# Altium integrated library Analog Devices Operational Amplifiers.IntLib: 2102 symbols (part 60 of 70)
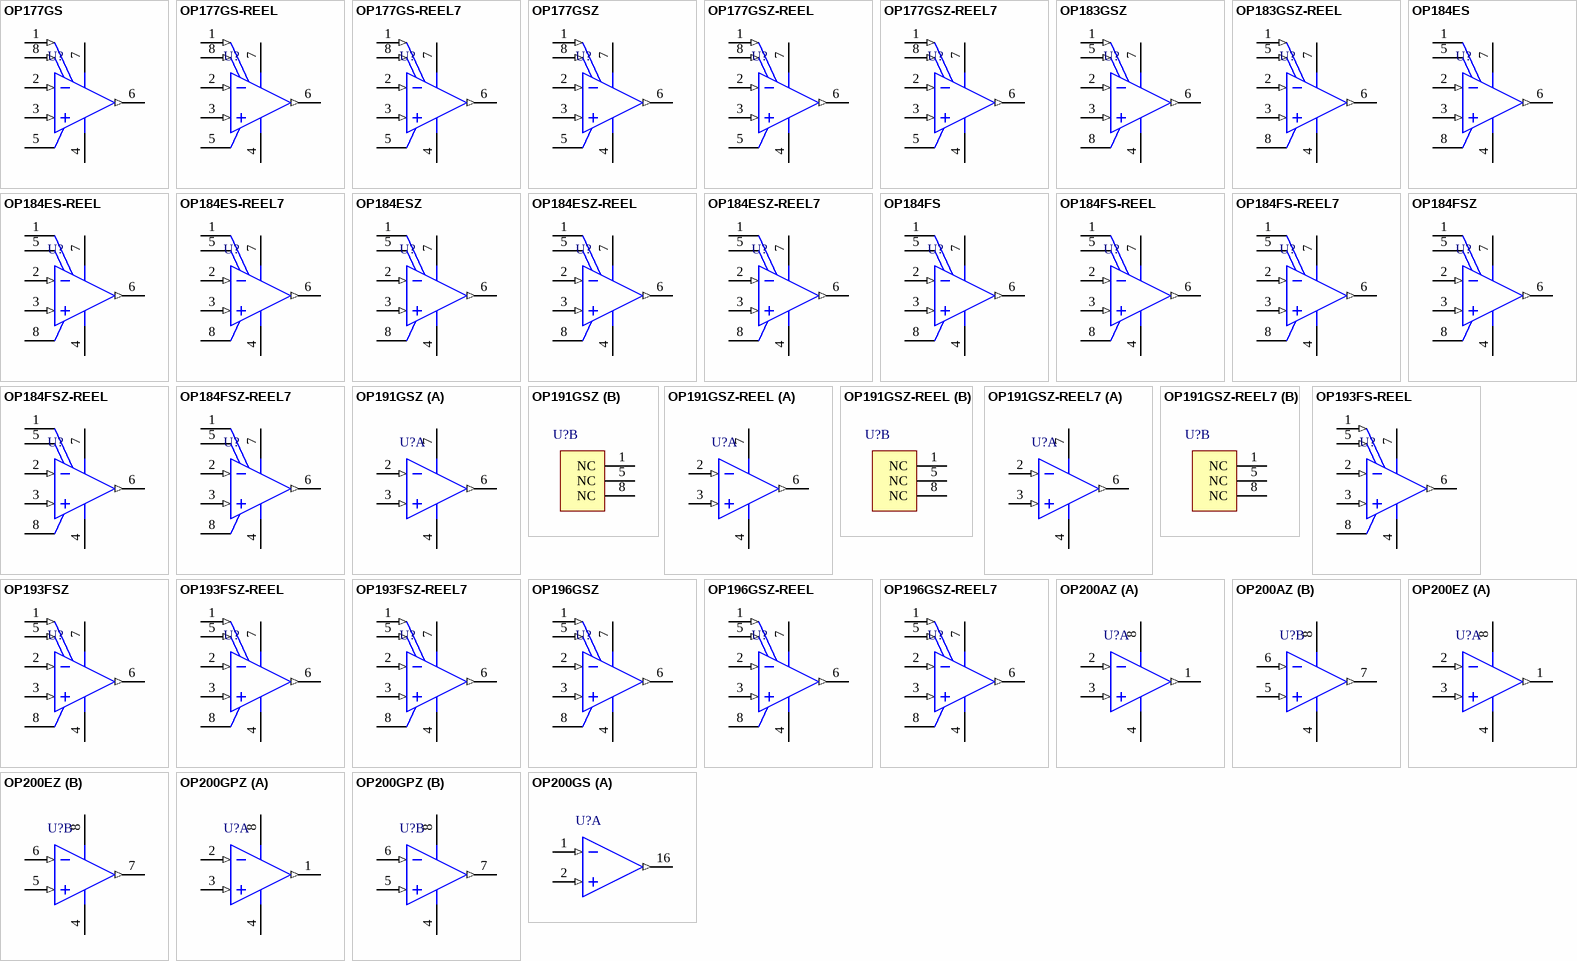
[diagram p173: symbols OP177GS to OP200GS]

## OP184ES
designator U?
Single Channel Wide Bandwidth Operational Amplifier, 4.25 MHz BW, 4 V/us SR, Industrial, 8-pin SOIC (R-8), Tube; Generic Part Number: OP184; Manufacturer: Analog Devices; PartNumber: OP184ES; Amplifiers Per Package: 1; Input Bias Current: 80nA; Input Offset Voltage: 175uV; Iq/Amp: 2mA; Slew Rate: 4V/us; V Span Max: 36V; V Span Min: 3V; DatasheetVersion: Rev. J; PackageVersion: 060506-A; PackageReference: R-8; PackageDescription: 8-Pin Standard Small Outline Package, Body 3.9 x 4.9 mm, Pitch 1.27 mm; Supplier 1: Digi-Key; Supplier Part Number 1: OP184ES-ND; Supplier 2: Newark; Supplier Part Number 2: 91F2959; Packing: Tube; Small Signal Bandwidth: 4.25MHz; Mounting Technology: Surface Mount; Code_JEDEC: MS-012-AA; ComponentLink1Description: Manufacturer URL; ComponentLink1URL: http://www.analog.com/en/index.html; ComponentLink2Description: Datasheet; ComponentLink2URL: http://www.analog.com/static/imported-files/data_sheets/OP184_284_484.pdf; ComponentLink3Description: Package Specification; ComponentLink3URL: http://www.analog.com/static/imported-files/packages/PKG_PDF/SOIC_Narrow%20(R)/R_8.pdf; ComponentLink4Description: Reference Circuit; ComponentLink4URL: http://www.analog.com/en/all-operational-amplifiers-op-amps/operational-amplifiers-op-amps/op184/products/product.html#product-recommendations
footprint ADI-R-8_N (SOIC, 8-Leads, Body 4.9x3.9mm, Pitch 1.27mm, IPC Medium Density)
footprint ADI-R-8_L (SOIC, 8-Leads, Body 4.9x3.9mm, Pitch 1.27mm, IPC High Density)
footprint ADI-R-8_M (SOIC, 8-Leads, Body 4.9x3.9mm, Pitch 1.27mm, IPC Low Density)
pins: 1 DNC, 2 -IN A (in), 3 +IN A (in), 4 -V (power), 5 DNC, 6 OUT A (out), 7 +V (power), 8 NC

## OP184ES-REEL
designator U?
Single Channel Wide Bandwidth Operational Amplifier, 4.25 MHz BW, 4 V/us SR, Industrial, 8-pin SOIC (R-8), Reel; Generic Part Number: OP184; Manufacturer: Analog Devices; PartNumber: OP184ES-REEL; Amplifiers Per Package: 1; Input Bias Current: 80nA; Input Offset Voltage: 175uV; Iq/Amp: 2mA; Slew Rate: 4V/us; V Span Max: 36V; V Span Min: 3V; DatasheetVersion: Rev. J; PackageVersion: 060506-A; PackageReference: R-8; PackageDescription: 8-Pin Standard Small Outline Package, Body 3.9 x 4.9 mm, Pitch 1.27 mm; Supplier 1: Digi-Key; Supplier Part Number 1: OP184ES-REEL-ND; Supplier 2: Newark; Supplier Part Number 2: 09B8332; Packing: Reel; Small Signal Bandwidth: 4.25MHz; Mounting Technology: Surface Mount; Code_JEDEC: MS-012-AA; ComponentLink1Description: Manufacturer URL; ComponentLink1URL: http://www.analog.com/en/index.html; ComponentLink2Description: Datasheet; ComponentLink2URL: http://www.analog.com/static/imported-files/data_sheets/OP184_284_484.pdf; ComponentLink3Description: Package Specification; ComponentLink3URL: http://www.analog.com/static/imported-files/packages/PKG_PDF/SOIC_Narrow%20(R)/R_8.pdf; ComponentLink4Description: Reference Circuit; ComponentLink4URL: http://www.analog.com/en/all-operational-amplifiers-op-amps/operational-amplifiers-op-amps/op184/products/product.html#product-recommendations
footprint ADI-R-8_N (SOIC, 8-Leads, Body 4.9x3.9mm, Pitch 1.27mm, IPC Medium Density)
footprint ADI-R-8_L (SOIC, 8-Leads, Body 4.9x3.9mm, Pitch 1.27mm, IPC High Density)
footprint ADI-R-8_M (SOIC, 8-Leads, Body 4.9x3.9mm, Pitch 1.27mm, IPC Low Density)
pins: 1 DNC, 2 -IN A (in), 3 +IN A (in), 4 -V (power), 5 DNC, 6 OUT A (out), 7 +V (power), 8 NC

## OP184ES-REEL7
designator U?
Single Channel Wide Bandwidth Operational Amplifier, 4.25 MHz BW, 4 V/us SR, Industrial, 8-pin SOIC (R-8), Reel; Generic Part Number: OP184; Manufacturer: Analog Devices; PartNumber: OP184ES-REEL7; Amplifiers Per Package: 1; Input Bias Current: 80nA; Input Offset Voltage: 175uV; Iq/Amp: 2mA; Slew Rate: 4V/us; V Span Max: 36V; V Span Min: 3V; DatasheetVersion: Rev. J; PackageVersion: 060506-A; PackageReference: R-8; PackageDescription: 8-Pin Standard Small Outline Package, Body 3.9 x 4.9 mm, Pitch 1.27 mm; Supplier 1: Digi-Key; Supplier Part Number 1: OP184ES-REEL7-ND; Supplier 2: Newark; Supplier Part Number 2: 09B8333; Packing: Reel; Small Signal Bandwidth: 4.25MHz; Mounting Technology: Surface Mount; Code_JEDEC: MS-012-AA; ComponentLink1Description: Manufacturer URL; ComponentLink1URL: http://www.analog.com/en/index.html; ComponentLink2Description: Datasheet; ComponentLink2URL: http://www.analog.com/static/imported-files/data_sheets/OP184_284_484.pdf; ComponentLink3Description: Package Specification; ComponentLink3URL: http://www.analog.com/static/imported-files/packages/PKG_PDF/SOIC_Narrow%20(R)/R_8.pdf; ComponentLink4Description: Reference Circuit; ComponentLink4URL: http://www.analog.com/en/all-operational-amplifiers-op-amps/operational-amplifiers-op-amps/op184/products/product.html#product-recommendations
footprint ADI-R-8_N (SOIC, 8-Leads, Body 4.9x3.9mm, Pitch 1.27mm, IPC Medium Density)
footprint ADI-R-8_L (SOIC, 8-Leads, Body 4.9x3.9mm, Pitch 1.27mm, IPC High Density)
footprint ADI-R-8_M (SOIC, 8-Leads, Body 4.9x3.9mm, Pitch 1.27mm, IPC Low Density)
pins: 1 DNC, 2 -IN A (in), 3 +IN A (in), 4 -V (power), 5 DNC, 6 OUT A (out), 7 +V (power), 8 NC

## OP184ESZ
designator U?
Single Channel Wide Bandwidth Operational Amplifier, 4.25 MHz BW, 4 V/us SR, Industrial, 8-pin SOIC (R-8), Tube; Generic Part Number: OP184; Manufacturer: Analog Devices; PartNumber: OP184ESZ; Amplifiers Per Package: 1; Input Bias Current: 80nA; Input Offset Voltage: 175uV; Iq/Amp: 2mA; Slew Rate: 4V/us; V Span Max: 36V; V Span Min: 3V; DatasheetVersion: Rev. J; PackageVersion: 060506-A; PackageReference: R-8; PackageDescription: 8-Pin Standard Small Outline Package, Body 3.9 x 4.9 mm, Pitch 1.27 mm; Supplier 1: Digi-Key; Supplier Part Number 1: OP184ESZ-ND; Supplier 2: Farnell; Supplier Part Number 2: 1661002; Supplier 3: Newark; Supplier Part Number 3: 59K8781; Packing: Tube; Small Signal Bandwidth: 4.25MHz; Mounting Technology: Surface Mount; Code_JEDEC: MS-012-AA; ComponentLink1Description: Manufacturer URL; ComponentLink1URL: http://www.analog.com/en/index.html; ComponentLink2Description: Datasheet; ComponentLink2URL: http://www.analog.com/static/imported-files/data_sheets/OP184_284_484.pdf; ComponentLink3Description: Package Specification; ComponentLink3URL: http://www.analog.com/static/imported-files/packages/PKG_PDF/SOIC_Narrow%20(R)/R_8.pdf; ComponentLink4Description: Reference Circuit; ComponentLink4URL: http://www.analog.com/en/all-operational-amplifiers-op-amps/operational-amplifiers-op-amps/op184/products/product.html#product-recommendations
footprint ADI-R-8_N (SOIC, 8-Leads, Body 4.9x3.9mm, Pitch 1.27mm, IPC Medium Density)
footprint ADI-R-8_L (SOIC, 8-Leads, Body 4.9x3.9mm, Pitch 1.27mm, IPC High Density)
footprint ADI-R-8_M (SOIC, 8-Leads, Body 4.9x3.9mm, Pitch 1.27mm, IPC Low Density)
pins: 1 DNC, 2 -IN A (in), 3 +IN A (in), 4 -V (power), 5 DNC, 6 OUT A (out), 7 +V (power), 8 NC

## OP184ESZ-REEL
designator U?
Single Channel Wide Bandwidth Operational Amplifier, 4.25 MHz BW, 4 V/us SR, Industrial, 8-pin SOIC (R-8), Reel; Generic Part Number: OP184; Manufacturer: Analog Devices; PartNumber: OP184ESZ-REEL; Amplifiers Per Package: 1; Input Bias Current: 80nA; Input Offset Voltage: 175uV; Iq/Amp: 2mA; Slew Rate: 4V/us; V Span Max: 36V; V Span Min: 3V; DatasheetVersion: Rev. J; PackageVersion: 060506-A; PackageReference: R-8; PackageDescription: 8-Pin Standard Small Outline Package, Body 3.9 x 4.9 mm, Pitch 1.27 mm; Supplier 1: Digi-Key; Supplier Part Number 1: OP184ESZ-REEL-ND; Supplier 2: Newark; Supplier Part Number 2: 59K8782; Packing: Reel; Small Signal Bandwidth: 4.25MHz; Mounting Technology: Surface Mount; Code_JEDEC: MS-012-AA; ComponentLink1Description: Manufacturer URL; ComponentLink1URL: http://www.analog.com/en/index.html; ComponentLink2Description: Datasheet; ComponentLink2URL: http://www.analog.com/static/imported-files/data_sheets/OP184_284_484.pdf; ComponentLink3Description: Package Specification; ComponentLink3URL: http://www.analog.com/static/imported-files/packages/PKG_PDF/SOIC_Narrow%20(R)/R_8.pdf; ComponentLink4Description: Reference Circuit; ComponentLink4URL: http://www.analog.com/en/all-operational-amplifiers-op-amps/operational-amplifiers-op-amps/op184/products/product.html#product-recommendations
footprint ADI-R-8_N (SOIC, 8-Leads, Body 4.9x3.9mm, Pitch 1.27mm, IPC Medium Density)
footprint ADI-R-8_L (SOIC, 8-Leads, Body 4.9x3.9mm, Pitch 1.27mm, IPC High Density)
footprint ADI-R-8_M (SOIC, 8-Leads, Body 4.9x3.9mm, Pitch 1.27mm, IPC Low Density)
pins: 1 DNC, 2 -IN A (in), 3 +IN A (in), 4 -V (power), 5 DNC, 6 OUT A (out), 7 +V (power), 8 NC

## OP184ESZ-REEL7
designator U?
Single Channel Wide Bandwidth Operational Amplifier, 4.25 MHz BW, 4 V/us SR, Industrial, 8-pin SOIC (R-8), Reel; Generic Part Number: OP184; Manufacturer: Analog Devices; PartNumber: OP184ESZ-REEL7; Amplifiers Per Package: 1; Input Bias Current: 80nA; Input Offset Voltage: 175uV; Iq/Amp: 2mA; Slew Rate: 4V/us; V Span Max: 36V; V Span Min: 3V; DatasheetVersion: Rev. J; PackageVersion: 060506-A; PackageReference: R-8; PackageDescription: 8-Pin Standard Small Outline Package, Body 3.9 x 4.9 mm, Pitch 1.27 mm; Supplier 1: Digi-Key; Supplier Part Number 1: OP184ESZ-REEL7-ND; Supplier 2: Newark; Supplier Part Number 2: 59K8783; Packing: Reel; Small Signal Bandwidth: 4.25MHz; Mounting Technology: Surface Mount; Code_JEDEC: MS-012-AA; ComponentLink1Description: Manufacturer URL; ComponentLink1URL: http://www.analog.com/en/index.html; ComponentLink2Description: Datasheet; ComponentLink2URL: http://www.analog.com/static/imported-files/data_sheets/OP184_284_484.pdf; ComponentLink3Description: Package Specification; ComponentLink3URL: http://www.analog.com/static/imported-files/packages/PKG_PDF/SOIC_Narrow%20(R)/R_8.pdf; ComponentLink4Description: Reference Circuit; ComponentLink4URL: http://www.analog.com/en/all-operational-amplifiers-op-amps/operational-amplifiers-op-amps/op184/products/product.html#product-recommendations
footprint ADI-R-8_N (SOIC, 8-Leads, Body 4.9x3.9mm, Pitch 1.27mm, IPC Medium Density)
footprint ADI-R-8_L (SOIC, 8-Leads, Body 4.9x3.9mm, Pitch 1.27mm, IPC High Density)
footprint ADI-R-8_M (SOIC, 8-Leads, Body 4.9x3.9mm, Pitch 1.27mm, IPC Low Density)
pins: 1 DNC, 2 -IN A (in), 3 +IN A (in), 4 -V (power), 5 DNC, 6 OUT A (out), 7 +V (power), 8 NC

## OP184FS
designator U?
Single Channel Wide Bandwidth Operational Amplifier, 4.25 MHz BW, 4 V/us SR, Industrial, 8-pin SOIC (R-8), Tube; Generic Part Number: OP184; Manufacturer: Analog Devices; PartNumber: OP184FS; Amplifiers Per Package: 1; Input Bias Current: 80nA; Input Offset Voltage: 175uV; Iq/Amp: 2mA; Slew Rate: 4V/us; V Span Max: 36V; V Span Min: 3V; DatasheetVersion: Rev. J; PackageVersion: 060506-A; PackageReference: R-8; PackageDescription: 8-Pin Standard Small Outline Package, Body 3.9 x 4.9 mm, Pitch 1.27 mm; Supplier 1: Digi-Key; Supplier Part Number 1: OP184FS-ND; Packing: Tube; Small Signal Bandwidth: 4.25MHz; Mounting Technology: Surface Mount; Code_JEDEC: MS-012-AA; ComponentLink1Description: Manufacturer URL; ComponentLink1URL: http://www.analog.com/en/index.html; ComponentLink2Description: Datasheet; ComponentLink2URL: http://www.analog.com/static/imported-files/data_sheets/OP184_284_484.pdf; ComponentLink3Description: Package Specification; ComponentLink3URL: http://www.analog.com/static/imported-files/packages/PKG_PDF/SOIC_Narrow%20(R)/R_8.pdf; ComponentLink4Description: Reference Circuit; ComponentLink4URL: http://www.analog.com/en/all-operational-amplifiers-op-amps/operational-amplifiers-op-amps/op184/products/product.html#product-recommendations
footprint ADI-R-8_N (SOIC, 8-Leads, Body 4.9x3.9mm, Pitch 1.27mm, IPC Medium Density)
footprint ADI-R-8_L (SOIC, 8-Leads, Body 4.9x3.9mm, Pitch 1.27mm, IPC High Density)
footprint ADI-R-8_M (SOIC, 8-Leads, Body 4.9x3.9mm, Pitch 1.27mm, IPC Low Density)
pins: 1 DNC, 2 -IN A (in), 3 +IN A (in), 4 -V (power), 5 DNC, 6 OUT A (out), 7 +V (power), 8 NC

## OP184FS-REEL
designator U?
Single Channel Wide Bandwidth Operational Amplifier, 4.25 MHz BW, 4 V/us SR, Industrial, 8-pin SOIC (R-8), Reel; Generic Part Number: OP184; Manufacturer: Analog Devices; PartNumber: OP184FS-REEL; Amplifiers Per Package: 1; Input Bias Current: 80nA; Input Offset Voltage: 175uV; Iq/Amp: 2mA; Slew Rate: 4V/us; V Span Max: 36V; V Span Min: 3V; DatasheetVersion: Rev. J; PackageVersion: 060506-A; PackageReference: R-8; PackageDescription: 8-Pin Standard Small Outline Package, Body 3.9 x 4.9 mm, Pitch 1.27 mm; Supplier 1: Digi-Key; Supplier Part Number 1: OP184FS-REEL-ND; Supplier 2: Newark; Supplier Part Number 2: 09B8334; Packing: Reel; Small Signal Bandwidth: 4.25MHz; Mounting Technology: Surface Mount; Code_JEDEC: MS-012-AA; ComponentLink1Description: Manufacturer URL; ComponentLink1URL: http://www.analog.com/en/index.html; ComponentLink2Description: Datasheet; ComponentLink2URL: http://www.analog.com/static/imported-files/data_sheets/OP184_284_484.pdf; ComponentLink3Description: Package Specification; ComponentLink3URL: http://www.analog.com/static/imported-files/packages/PKG_PDF/SOIC_Narrow%20(R)/R_8.pdf; ComponentLink4Description: Reference Circuit; ComponentLink4URL: http://www.analog.com/en/all-operational-amplifiers-op-amps/operational-amplifiers-op-amps/op184/products/product.html#product-recommendations
footprint ADI-R-8_N (SOIC, 8-Leads, Body 4.9x3.9mm, Pitch 1.27mm, IPC Medium Density)
footprint ADI-R-8_L (SOIC, 8-Leads, Body 4.9x3.9mm, Pitch 1.27mm, IPC High Density)
footprint ADI-R-8_M (SOIC, 8-Leads, Body 4.9x3.9mm, Pitch 1.27mm, IPC Low Density)
pins: 1 DNC, 2 -IN A (in), 3 +IN A (in), 4 -V (power), 5 DNC, 6 OUT A (out), 7 +V (power), 8 NC

## OP184FS-REEL7
designator U?
Single Channel Wide Bandwidth Operational Amplifier, 4.25 MHz BW, 4 V/us SR, Industrial, 8-pin SOIC (R-8), Reel; Generic Part Number: OP184; Manufacturer: Analog Devices; PartNumber: OP184FS-REEL7; Amplifiers Per Package: 1; Input Bias Current: 80nA; Input Offset Voltage: 175uV; Iq/Amp: 2mA; Slew Rate: 4V/us; V Span Max: 36V; V Span Min: 3V; DatasheetVersion: Rev. J; PackageVersion: 060506-A; PackageReference: R-8; PackageDescription: 8-Pin Standard Small Outline Package, Body 3.9 x 4.9 mm, Pitch 1.27 mm; Supplier 1: Digi-Key; Supplier Part Number 1: OP184FS-REEL7-ND; Supplier 2: Newark; Supplier Part Number 2: 09B8335; Packing: Reel; Small Signal Bandwidth: 4.25MHz; Mounting Technology: Surface Mount; Code_JEDEC: MS-012-AA; ComponentLink1Description: Manufacturer URL; ComponentLink1URL: http://www.analog.com/en/index.html; ComponentLink2Description: Datasheet; ComponentLink2URL: http://www.analog.com/static/imported-files/data_sheets/OP184_284_484.pdf; ComponentLink3Description: Package Specification; ComponentLink3URL: http://www.analog.com/static/imported-files/packages/PKG_PDF/SOIC_Narrow%20(R)/R_8.pdf; ComponentLink4Description: Reference Circuit; ComponentLink4URL: http://www.analog.com/en/all-operational-amplifiers-op-amps/operational-amplifiers-op-amps/op184/products/product.html#product-recommendations
footprint ADI-R-8_N (SOIC, 8-Leads, Body 4.9x3.9mm, Pitch 1.27mm, IPC Medium Density)
footprint ADI-R-8_L (SOIC, 8-Leads, Body 4.9x3.9mm, Pitch 1.27mm, IPC High Density)
footprint ADI-R-8_M (SOIC, 8-Leads, Body 4.9x3.9mm, Pitch 1.27mm, IPC Low Density)
pins: 1 DNC, 2 -IN A (in), 3 +IN A (in), 4 -V (power), 5 DNC, 6 OUT A (out), 7 +V (power), 8 NC

## OP184FSZ
designator U?
Single Channel Wide Bandwidth Operational Amplifier, 4.25 MHz BW, 4 V/us SR, Industrial, 8-pin SOIC (R-8), Tube; Generic Part Number: OP184; Manufacturer: Analog Devices; PartNumber: OP184FSZ; Amplifiers Per Package: 1; Input Bias Current: 80nA; Input Offset Voltage: 175uV; Iq/Amp: 2mA; Slew Rate: 4V/us; V Span Max: 36V; V Span Min: 3V; DatasheetVersion: Rev. J; PackageVersion: 060506-A; PackageReference: R-8; PackageDescription: 8-Pin Standard Small Outline Package, Body 3.9 x 4.9 mm, Pitch 1.27 mm; Supplier 1: Digi-Key; Supplier Part Number 1: OP184FSZ-ND; Supplier 2: Farnell; Supplier Part Number 2: 1438996; Supplier 3: Newark; Supplier Part Number 3: 59K8784; Packing: Tube; Small Signal Bandwidth: 4.25MHz; Mounting Technology: Surface Mount; Code_JEDEC: MS-012-AA; ComponentLink1Description: Manufacturer URL; ComponentLink1URL: http://www.analog.com/en/index.html; ComponentLink2Description: Datasheet; ComponentLink2URL: http://www.analog.com/static/imported-files/data_sheets/OP184_284_484.pdf; ComponentLink3Description: Package Specification; ComponentLink3URL: http://www.analog.com/static/imported-files/packages/PKG_PDF/SOIC_Narrow%20(R)/R_8.pdf; ComponentLink4Description: Reference Circuit; ComponentLink4URL: http://www.analog.com/en/all-operational-amplifiers-op-amps/operational-amplifiers-op-amps/op184/products/product.html#product-recommendations
footprint ADI-R-8_N (SOIC, 8-Leads, Body 4.9x3.9mm, Pitch 1.27mm, IPC Medium Density)
footprint ADI-R-8_L (SOIC, 8-Leads, Body 4.9x3.9mm, Pitch 1.27mm, IPC High Density)
footprint ADI-R-8_M (SOIC, 8-Leads, Body 4.9x3.9mm, Pitch 1.27mm, IPC Low Density)
pins: 1 DNC, 2 -IN A (in), 3 +IN A (in), 4 -V (power), 5 DNC, 6 OUT A (out), 7 +V (power), 8 NC

## OP184FSZ-REEL
designator U?
Single Channel Wide Bandwidth Operational Amplifier, 4.25 MHz BW, 4 V/us SR, Industrial, 8-pin SOIC (R-8), Reel; Generic Part Number: OP184; Manufacturer: Analog Devices; PartNumber: OP184FSZ-REEL; Amplifiers Per Package: 1; Input Bias Current: 80nA; Input Offset Voltage: 175uV; Iq/Amp: 2mA; Slew Rate: 4V/us; V Span Max: 36V; V Span Min: 3V; DatasheetVersion: Rev. J; PackageVersion: 060506-A; PackageReference: R-8; PackageDescription: 8-Pin Standard Small Outline Package, Body 3.9 x 4.9 mm, Pitch 1.27 mm; Supplier 1: Digi-Key; Supplier Part Number 1: OP184FSZ-REEL-ND; Supplier 2: Newark; Supplier Part Number 2: 59K8785; Packing: Reel; Small Signal Bandwidth: 4.25MHz; Mounting Technology: Surface Mount; Code_JEDEC: MS-012-AA; ComponentLink1Description: Manufacturer URL; ComponentLink1URL: http://www.analog.com/en/index.html; ComponentLink2Description: Datasheet; ComponentLink2URL: http://www.analog.com/static/imported-files/data_sheets/OP184_284_484.pdf; ComponentLink3Description: Package Specification; ComponentLink3URL: http://www.analog.com/static/imported-files/packages/PKG_PDF/SOIC_Narrow%20(R)/R_8.pdf; ComponentLink4Description: Reference Circuit; ComponentLink4URL: http://www.analog.com/en/all-operational-amplifiers-op-amps/operational-amplifiers-op-amps/op184/products/product.html#product-recommendations
footprint ADI-R-8_N (SOIC, 8-Leads, Body 4.9x3.9mm, Pitch 1.27mm, IPC Medium Density)
footprint ADI-R-8_L (SOIC, 8-Leads, Body 4.9x3.9mm, Pitch 1.27mm, IPC High Density)
footprint ADI-R-8_M (SOIC, 8-Leads, Body 4.9x3.9mm, Pitch 1.27mm, IPC Low Density)
pins: 1 DNC, 2 -IN A (in), 3 +IN A (in), 4 -V (power), 5 DNC, 6 OUT A (out), 7 +V (power), 8 NC

## OP184FSZ-REEL7
designator U?
Single Channel Wide Bandwidth Operational Amplifier, 4.25 MHz BW, 4 V/us SR, Industrial, 8-pin SOIC (R-8), Reel; Generic Part Number: OP184; Manufacturer: Analog Devices; PartNumber: OP184FSZ-REEL7; Amplifiers Per Package: 1; Input Bias Current: 80nA; Input Offset Voltage: 175uV; Iq/Amp: 2mA; Slew Rate: 4V/us; V Span Max: 36V; V Span Min: 3V; DatasheetVersion: Rev. J; PackageVersion: 060506-A; PackageReference: R-8; PackageDescription: 8-Pin Standard Small Outline Package, Body 3.9 x 4.9 mm, Pitch 1.27 mm; Supplier 1: Digi-Key; Supplier Part Number 1: OP184FSZ-REEL7TR-ND; Supplier 2: Digi-Key; Supplier Part Number 2: OP184FSZ-REEL7CT-ND; Supplier 3: Digi-Key; Supplier Part Number 3: OP184FSZ-REEL7DKR-ND; Supplier 4: Farnell; Supplier Part Number 4: 1571457; Supplier 5: Newark; Supplier Part Number 5: 59K8786; Packing: Reel; Small Signal Bandwidth: 4.25MHz; Mounting Technology: Surface Mount; Code_JEDEC: MS-012-AA; ComponentLink1Description: Manufacturer URL; ComponentLink1URL: http://www.analog.com/en/index.html; ComponentLink2Description: Datasheet; ComponentLink2URL: http://www.analog.com/static/imported-files/data_sheets/OP184_284_484.pdf; ComponentLink3Description: Package Specification; ComponentLink3URL: http://www.analog.com/static/imported-files/packages/PKG_PDF/SOIC_Narrow%20(R)/R_8.pdf; ComponentLink4Description: Reference Circuit; ComponentLink4URL: http://www.analog.com/en/all-operational-amplifiers-op-amps/operational-amplifiers-op-amps/op184/products/product.html#product-recommendations
footprint ADI-R-8_N (SOIC, 8-Leads, Body 4.9x3.9mm, Pitch 1.27mm, IPC Medium Density)
footprint ADI-R-8_L (SOIC, 8-Leads, Body 4.9x3.9mm, Pitch 1.27mm, IPC High Density)
footprint ADI-R-8_M (SOIC, 8-Leads, Body 4.9x3.9mm, Pitch 1.27mm, IPC Low Density)
pins: 1 DNC, 2 -IN A (in), 3 +IN A (in), 4 -V (power), 5 DNC, 6 OUT A (out), 7 +V (power), 8 NC

## OP191GSZ
designator U?
Single Channel Rail-to-Rail Operational Amplifier, 3 MHz BW, 500 mV/us SR, Industrial, 8-pin SOIC (R-8), Tube; Generic Part Number: OP191; Manufacturer: Analog Devices; PartNumber: OP191GSZ; Amplifiers Per Package: 1; Input Bias Current: 30nA; Input Offset Voltage: 80uV; Iq/Amp: 420uA; Small Signal Bandwidth: 3MHz; V Span Max: 12V; V Span Min: 2.7V; DatasheetVersion: Rev. E; PackageVersion: 060506-A; PackageReference: R-8; PackageDescription: 8-Pin Standard Small Outline Package, Body 3.9 x 4.9 mm, Pitch 1.27 mm; Supplier 1: Digi-Key; Supplier Part Number 1: OP191GSZ-ND; Supplier 2: Farnell; Supplier Part Number 2: 2102491; Supplier 3: Newark; Supplier Part Number 3: 59K8788; Slew Rate: 500mV/us; Mounting Technology: Surface Mount; Code_JEDEC: MS-012-AA; ComponentLink1Description: Manufacturer URL; ComponentLink1URL: http://www.analog.com/en/index.html; ComponentLink2Description: Datasheet; ComponentLink2URL: http://www.analog.com/static/imported-files/data_sheets/OP191_291_491.pdf; ComponentLink3Description: Package Specification; ComponentLink3URL: http://www.analog.com/static/imported-files/packages/PKG_PDF/SOIC_Narrow%20(R)/R_8.pdf
footprint ADI-R-8_N (SOIC, 8-Leads, Body 4.9x3.9mm, Pitch 1.27mm, IPC Medium Density)
footprint ADI-R-8_L (SOIC, 8-Leads, Body 4.9x3.9mm, Pitch 1.27mm, IPC High Density)
footprint ADI-R-8_M (SOIC, 8-Leads, Body 4.9x3.9mm, Pitch 1.27mm, IPC Low Density)
part A pins: 2 -IN A (in), 3 +IN A (in), 4 -V (power), 6 OUT A (out), 7 +V (power)
part B pins: 1 NC, 5 NC, 8 NC

## OP191GSZ-REEL
designator U?
Single Channel Rail-to-Rail Operational Amplifier, 3 MHz BW, 500 mV/us SR, Industrial, 8-pin SOIC (R-8), Reel; Generic Part Number: OP191; Manufacturer: Analog Devices; PartNumber: OP191GSZ-REEL; Amplifiers Per Package: 1; Input Bias Current: 30nA; Input Offset Voltage: 80uV; Iq/Amp: 420uA; Small Signal Bandwidth: 3MHz; V Span Max: 12V; V Span Min: 2.7V; DatasheetVersion: Rev. E; PackageVersion: 060506-A; PackageReference: R-8; PackageDescription: 8-Pin Standard Small Outline Package, Body 3.9 x 4.9 mm, Pitch 1.27 mm; Supplier 1: Digi-Key; Supplier Part Number 1: OP191GSZ-REEL-ND; Slew Rate: 500mV/us; Mounting Technology: Surface Mount; Code_JEDEC: MS-012-AA; ComponentLink1Description: Manufacturer URL; ComponentLink1URL: http://www.analog.com/en/index.html; ComponentLink2Description: Datasheet; ComponentLink2URL: http://www.analog.com/static/imported-files/data_sheets/OP191_291_491.pdf; ComponentLink3Description: Package Specification; ComponentLink3URL: http://www.analog.com/static/imported-files/packages/PKG_PDF/SOIC_Narrow%20(R)/R_8.pdf
footprint ADI-R-8_N (SOIC, 8-Leads, Body 4.9x3.9mm, Pitch 1.27mm, IPC Medium Density)
footprint ADI-R-8_L (SOIC, 8-Leads, Body 4.9x3.9mm, Pitch 1.27mm, IPC High Density)
footprint ADI-R-8_M (SOIC, 8-Leads, Body 4.9x3.9mm, Pitch 1.27mm, IPC Low Density)
part A pins: 2 -IN A (in), 3 +IN A (in), 4 -V (power), 6 OUT A (out), 7 +V (power)
part B pins: 1 NC, 5 NC, 8 NC

## OP191GSZ-REEL7
designator U?
Single Channel Rail-to-Rail Operational Amplifier, 3 MHz BW, 500 mV/us SR, Industrial, 8-pin SOIC (R-8), Reel; Generic Part Number: OP191; Manufacturer: Analog Devices; PartNumber: OP191GSZ-REEL7; Amplifiers Per Package: 1; Input Bias Current: 30nA; Input Offset Voltage: 80uV; Iq/Amp: 420uA; Small Signal Bandwidth: 3MHz; V Span Max: 12V; V Span Min: 2.7V; DatasheetVersion: Rev. E; PackageVersion: 060506-A; PackageReference: R-8; PackageDescription: 8-Pin Standard Small Outline Package, Body 3.9 x 4.9 mm, Pitch 1.27 mm; Supplier 1: Digi-Key; Supplier Part Number 1: OP191GSZ-REEL7TR-ND; Supplier 2: Digi-Key; Supplier Part Number 2: OP191GSZ-REEL7CT-ND; Supplier 3: Digi-Key; Supplier Part Number 3: OP191GSZ-REEL7DKR-ND; Supplier 4: Newark; Supplier Part Number 4: 59K8790; Slew Rate: 500mV/us; Mounting Technology: Surface Mount; Code_JEDEC: MS-012-AA; ComponentLink1Description: Manufacturer URL; ComponentLink1URL: http://www.analog.com/en/index.html; ComponentLink2Description: Datasheet; ComponentLink2URL: http://www.analog.com/static/imported-files/data_sheets/OP191_291_491.pdf; ComponentLink3Description: Package Specification; ComponentLink3URL: http://www.analog.com/static/imported-files/packages/PKG_PDF/SOIC_Narrow%20(R)/R_8.pdf
footprint ADI-R-8_N (SOIC, 8-Leads, Body 4.9x3.9mm, Pitch 1.27mm, IPC Medium Density)
footprint ADI-R-8_L (SOIC, 8-Leads, Body 4.9x3.9mm, Pitch 1.27mm, IPC High Density)
footprint ADI-R-8_M (SOIC, 8-Leads, Body 4.9x3.9mm, Pitch 1.27mm, IPC Low Density)
part A pins: 2 -IN A (in), 3 +IN A (in), 4 -V (power), 6 OUT A (out), 7 +V (power)
part B pins: 1 NC, 5 NC, 8 NC

## OP193FS-REEL
designator U?
Single Channel Low Supply Current Operational Amplifier, 35 KHz BW, 15 mV/us SR, Industrial, 8-pin SOIC (R-8), Reel; Generic Part Number: OP193; Manufacturer: Analog Devices; PartNumber: OP193FS-REEL; Amplifiers Per Package: 1; Input Bias Current: 20nA; Input Offset Voltage: 150uV; Iq/Amp: 30uA; Small Signal Bandwidth: 35KHz; V Span Max: 36V; V Span Min: 1.7V; DatasheetVersion: Rev. C; PackageVersion: 060506-A; PackageReference: R-8; PackageDescription: 8-Pin Standard Small Outline Package, Body 3.9 x 4.9 mm, Pitch 1.27 mm; Supplier 1: Digi-Key; Supplier Part Number 1: OP193FS-REEL-ND; Supplier 2: Newark; Supplier Part Number 2: 02H2599; Slew Rate: 15mV/us; Mounting Technology: Surface Mount; Code_JEDEC: MS-012-AA; ComponentLink1Description: Manufacturer URL; ComponentLink1URL: http://www.analog.com/en/index.html; ComponentLink2Description: Datasheet; ComponentLink2URL: http://www.analog.com/static/imported-files/data_sheets/OP193_293.pdf; ComponentLink3Description: Package Specification; ComponentLink3URL: http://www.analog.com/static/imported-files/packages/PKG_PDF/SOIC_Narrow%20(R)/R_8.pdf; ComponentLink4Description: Reference Circuit; ComponentLink4URL: http://www.analog.com/en/all-operational-amplifiers-op-amps/operational-amplifiers-op-amps/op193/products/product.html#product-recommendations
footprint ADI-R-8_N (SOIC, 8-Leads, Body 4.9x3.9mm, Pitch 1.27mm, IPC Medium Density)
footprint ADI-R-8_L (SOIC, 8-Leads, Body 4.9x3.9mm, Pitch 1.27mm, IPC High Density)
footprint ADI-R-8_M (SOIC, 8-Leads, Body 4.9x3.9mm, Pitch 1.27mm, IPC Low Density)
pins: 1 NULL (in), 2 -IN A (in), 3 +IN A (in), 4 -V (power), 5 NULL (in), 6 OUT A (out), 7 +V (power), 8 NC

## OP193FSZ
designator U?
Single Channel Low Supply Current Operational Amplifier, 35 KHz BW, 15 mV/us SR, Industrial, 8-pin SOIC (R-8), Tube; Generic Part Number: OP193; Manufacturer: Analog Devices; PartNumber: OP193FSZ; Amplifiers Per Package: 1; Input Bias Current: 20nA; Input Offset Voltage: 150uV; Iq/Amp: 30uA; Small Signal Bandwidth: 35KHz; V Span Max: 36V; V Span Min: 1.7V; DatasheetVersion: Rev. C; PackageVersion: 060506-A; PackageReference: R-8; PackageDescription: 8-Pin Standard Small Outline Package, Body 3.9 x 4.9 mm, Pitch 1.27 mm; Supplier 1: Digi-Key; Supplier Part Number 1: OP193FSZ-ND; Supplier 2: Farnell; Supplier Part Number 2: 1389168; Supplier 3: Newark; Supplier Part Number 3: 59K8791; Slew Rate: 15mV/us; Mounting Technology: Surface Mount; Code_JEDEC: MS-012-AA; ComponentLink1Description: Manufacturer URL; ComponentLink1URL: http://www.analog.com/en/index.html; ComponentLink2Description: Datasheet; ComponentLink2URL: http://www.analog.com/static/imported-files/data_sheets/OP193_293.pdf; ComponentLink3Description: Package Specification; ComponentLink3URL: http://www.analog.com/static/imported-files/packages/PKG_PDF/SOIC_Narrow%20(R)/R_8.pdf; ComponentLink4Description: Reference Circuit; ComponentLink4URL: http://www.analog.com/en/all-operational-amplifiers-op-amps/operational-amplifiers-op-amps/op193/products/product.html#product-recommendations
footprint ADI-R-8_N (SOIC, 8-Leads, Body 4.9x3.9mm, Pitch 1.27mm, IPC Medium Density)
footprint ADI-R-8_L (SOIC, 8-Leads, Body 4.9x3.9mm, Pitch 1.27mm, IPC High Density)
footprint ADI-R-8_M (SOIC, 8-Leads, Body 4.9x3.9mm, Pitch 1.27mm, IPC Low Density)
pins: 1 NULL (in), 2 -IN A (in), 3 +IN A (in), 4 -V (power), 5 NULL (in), 6 OUT A (out), 7 +V (power), 8 NC

## OP193FSZ-REEL
designator U?
Single Channel Low Supply Current Operational Amplifier, 35 KHz BW, 15 mV/us SR, Industrial, 8-pin SOIC (R-8), Reel; Generic Part Number: OP193; Manufacturer: Analog Devices; PartNumber: OP193FSZ-REEL; Amplifiers Per Package: 1; Input Bias Current: 20nA; Input Offset Voltage: 150uV; Iq/Amp: 30uA; Small Signal Bandwidth: 35KHz; V Span Max: 36V; V Span Min: 1.7V; DatasheetVersion: Rev. C; PackageVersion: 060506-A; PackageReference: R-8; PackageDescription: 8-Pin Standard Small Outline Package, Body 3.9 x 4.9 mm, Pitch 1.27 mm; Supplier 1: Digi-Key; Supplier Part Number 1: OP193FSZ-REEL-ND; Supplier 2: Newark; Supplier Part Number 2: 59K8792; Slew Rate: 15mV/us; Mounting Technology: Surface Mount; Code_JEDEC: MS-012-AA; ComponentLink1Description: Manufacturer URL; ComponentLink1URL: http://www.analog.com/en/index.html; ComponentLink2Description: Datasheet; ComponentLink2URL: http://www.analog.com/static/imported-files/data_sheets/OP193_293.pdf; ComponentLink3Description: Package Specification; ComponentLink3URL: http://www.analog.com/static/imported-files/packages/PKG_PDF/SOIC_Narrow%20(R)/R_8.pdf; ComponentLink4Description: Reference Circuit; ComponentLink4URL: http://www.analog.com/en/all-operational-amplifiers-op-amps/operational-amplifiers-op-amps/op193/products/product.html#product-recommendations
footprint ADI-R-8_N (SOIC, 8-Leads, Body 4.9x3.9mm, Pitch 1.27mm, IPC Medium Density)
footprint ADI-R-8_L (SOIC, 8-Leads, Body 4.9x3.9mm, Pitch 1.27mm, IPC High Density)
footprint ADI-R-8_M (SOIC, 8-Leads, Body 4.9x3.9mm, Pitch 1.27mm, IPC Low Density)
pins: 1 NULL (in), 2 -IN A (in), 3 +IN A (in), 4 -V (power), 5 NULL (in), 6 OUT A (out), 7 +V (power), 8 NC

## OP193FSZ-REEL7
designator U?
Single Channel Low Supply Current Operational Amplifier, 35 KHz BW, 15 mV/us SR, Industrial, 8-pin SOIC (R-8), Reel; Generic Part Number: OP193; Manufacturer: Analog Devices; PartNumber: OP193FSZ-REEL7; Amplifiers Per Package: 1; Input Bias Current: 20nA; Input Offset Voltage: 150uV; Iq/Amp: 30uA; Small Signal Bandwidth: 35KHz; V Span Max: 36V; V Span Min: 1.7V; DatasheetVersion: Rev. C; PackageVersion: 060506-A; PackageReference: R-8; PackageDescription: 8-Pin Standard Small Outline Package, Body 3.9 x 4.9 mm, Pitch 1.27 mm; Supplier 1: Digi-Key; Supplier Part Number 1: OP193FSZ-REEL7TR-ND; Supplier 2: Digi-Key; Supplier Part Number 2: OP193FSZ-REEL7CT-ND; Supplier 3: Digi-Key; Supplier Part Number 3: OP193FSZ-REEL7DKR-ND; Supplier 4: Newark; Supplier Part Number 4: 59K8793; Slew Rate: 15mV/us; Mounting Technology: Surface Mount; Code_JEDEC: MS-012-AA; ComponentLink1Description: Manufacturer URL; ComponentLink1URL: http://www.analog.com/en/index.html; ComponentLink2Description: Datasheet; ComponentLink2URL: http://www.analog.com/static/imported-files/data_sheets/OP193_293.pdf; ComponentLink3Description: Package Specification; ComponentLink3URL: http://www.analog.com/static/imported-files/packages/PKG_PDF/SOIC_Narrow%20(R)/R_8.pdf; ComponentLink4Description: Reference Circuit; ComponentLink4URL: http://www.analog.com/en/all-operational-amplifiers-op-amps/operational-amplifiers-op-amps/op193/products/product.html#product-recommendations
footprint ADI-R-8_N (SOIC, 8-Leads, Body 4.9x3.9mm, Pitch 1.27mm, IPC Medium Density)
footprint ADI-R-8_L (SOIC, 8-Leads, Body 4.9x3.9mm, Pitch 1.27mm, IPC High Density)
footprint ADI-R-8_M (SOIC, 8-Leads, Body 4.9x3.9mm, Pitch 1.27mm, IPC Low Density)
pins: 1 NULL (in), 2 -IN A (in), 3 +IN A (in), 4 -V (power), 5 NULL (in), 6 OUT A (out), 7 +V (power), 8 NC

## OP196GSZ
designator U?
Single Channel Rail-to-Rail Operational Amplifier, 450 KHz BW, 300 mV/us SR, Industrial, 8-pin SOIC (R-8), Tube; Generic Part Number: OP196; Manufacturer: Analog Devices; PartNumber: OP196GSZ; Amplifiers Per Package: 1; Input Bias Current: 10nA; Input Offset Voltage: 35uV; Iq/Amp: 60uA; Small Signal Bandwidth: 450KHz; V Span Max: 12V; V Span Min: 3V; DatasheetVersion: Rev. E; PackageVersion: 060506-A; PackageReference: R-8; PackageDescription: 8-Pin Standard Small Outline Package, Body 3.9 x 4.9 mm, Pitch 1.27 mm; Supplier 1: Digi-Key; Supplier Part Number 1: OP196GSZ-ND; Supplier 2: Farnell; Supplier Part Number 2: 1438997; Supplier 3: Newark; Supplier Part Number 3: 19M8979; Slew Rate: 300mV/us; Mounting Technology: Surface Mount; Code_JEDEC: MS-012-AA; ComponentLink1Description: Manufacturer URL; ComponentLink1URL: http://www.analog.com/en/index.html; ComponentLink2Description: Datasheet; ComponentLink2URL: http://www.analog.com/static/imported-files/data_sheets/OP196_296_496.pdf; ComponentLink3Description: Package Specification; ComponentLink3URL: http://www.analog.com/static/imported-files/packages/PKG_PDF/SOIC_Narrow%20(R)/R_8.pdf
footprint ADI-R-8_N (SOIC, 8-Leads, Body 4.9x3.9mm, Pitch 1.27mm, IPC Medium Density)
footprint ADI-R-8_L (SOIC, 8-Leads, Body 4.9x3.9mm, Pitch 1.27mm, IPC High Density)
footprint ADI-R-8_M (SOIC, 8-Leads, Body 4.9x3.9mm, Pitch 1.27mm, IPC Low Density)
pins: 1 NULL (in), 2 -IN A (in), 3 +IN A (in), 4 -V (power), 5 NULL (in), 6 OUT A (out), 7 +V (power), 8 NC

## OP196GSZ-REEL
designator U?
Single Channel Rail-to-Rail Operational Amplifier, 450 KHz BW, 300 mV/us SR, Industrial, 8-pin SOIC (R-8), Reel; Generic Part Number: OP196; Manufacturer: Analog Devices; PartNumber: OP196GSZ-REEL; Amplifiers Per Package: 1; Input Bias Current: 10nA; Input Offset Voltage: 35uV; Iq/Amp: 60uA; Small Signal Bandwidth: 450KHz; V Span Max: 12V; V Span Min: 3V; DatasheetVersion: Rev. E; PackageVersion: 060506-A; PackageReference: R-8; PackageDescription: 8-Pin Standard Small Outline Package, Body 3.9 x 4.9 mm, Pitch 1.27 mm; Supplier 1: Digi-Key; Supplier Part Number 1: OP196GSZ-REEL-ND; Supplier 2: Newark; Supplier Part Number 2: 59K8795; Slew Rate: 300mV/us; Mounting Technology: Surface Mount; Code_JEDEC: MS-012-AA; ComponentLink1Description: Manufacturer URL; ComponentLink1URL: http://www.analog.com/en/index.html; ComponentLink2Description: Datasheet; ComponentLink2URL: http://www.analog.com/static/imported-files/data_sheets/OP196_296_496.pdf; ComponentLink3Description: Package Specification; ComponentLink3URL: http://www.analog.com/static/imported-files/packages/PKG_PDF/SOIC_Narrow%20(R)/R_8.pdf
footprint ADI-R-8_N (SOIC, 8-Leads, Body 4.9x3.9mm, Pitch 1.27mm, IPC Medium Density)
footprint ADI-R-8_L (SOIC, 8-Leads, Body 4.9x3.9mm, Pitch 1.27mm, IPC High Density)
footprint ADI-R-8_M (SOIC, 8-Leads, Body 4.9x3.9mm, Pitch 1.27mm, IPC Low Density)
pins: 1 NULL (in), 2 -IN A (in), 3 +IN A (in), 4 -V (power), 5 NULL (in), 6 OUT A (out), 7 +V (power), 8 NC

## OP196GSZ-REEL7
designator U?
Single Channel Rail-to-Rail Operational Amplifier, 450 KHz BW, 300 mV/us SR, Industrial, 8-pin SOIC (R-8), Reel; Generic Part Number: OP196; Manufacturer: Analog Devices; PartNumber: OP196GSZ-REEL7; Amplifiers Per Package: 1; Input Bias Current: 10nA; Input Offset Voltage: 35uV; Iq/Amp: 60uA; Small Signal Bandwidth: 450KHz; V Span Max: 12V; V Span Min: 3V; DatasheetVersion: Rev. E; PackageVersion: 060506-A; PackageReference: R-8; PackageDescription: 8-Pin Standard Small Outline Package, Body 3.9 x 4.9 mm, Pitch 1.27 mm; Supplier 1: Digi-Key; Supplier Part Number 1: OP196GSZ-REEL7TR-ND; Supplier 2: Digi-Key; Supplier Part Number 2: OP196GSZ-REEL7CT-ND; Supplier 3: Digi-Key; Supplier Part Number 3: OP196GSZ-REEL7DKR-ND; Slew Rate: 300mV/us; Mounting Technology: Surface Mount; Code_JEDEC: MS-012-AA; ComponentLink1Description: Manufacturer URL; ComponentLink1URL: http://www.analog.com/en/index.html; ComponentLink2Description: Datasheet; ComponentLink2URL: http://www.analog.com/static/imported-files/data_sheets/OP196_296_496.pdf; ComponentLink3Description: Package Specification; ComponentLink3URL: http://www.analog.com/static/imported-files/packages/PKG_PDF/SOIC_Narrow%20(R)/R_8.pdf
footprint ADI-R-8_N (SOIC, 8-Leads, Body 4.9x3.9mm, Pitch 1.27mm, IPC Medium Density)
footprint ADI-R-8_L (SOIC, 8-Leads, Body 4.9x3.9mm, Pitch 1.27mm, IPC High Density)
footprint ADI-R-8_M (SOIC, 8-Leads, Body 4.9x3.9mm, Pitch 1.27mm, IPC Low Density)
pins: 1 NULL (in), 2 -IN A (in), 3 +IN A (in), 4 -V (power), 5 NULL (in), 6 OUT A (out), 7 +V (power), 8 NC

## OP200AZ
designator U?
Double Channel Low Supply Current Operational Amplifier, 500 KHz BW, 150 mV/us SR, Military, 8-pin DIP (Q-8), Tube; Generic Part Number: OP200; Manufacturer: Analog Devices; PartNumber: OP200AZ; Amplifiers Per Package: 2; Input Bias Current: 100pA; Input Offset Voltage: 80uV; Iq/Amp: 775uA; Small Signal Bandwidth: 500KHz; V Span Max: 40V; V Span Min: 6V; DatasheetVersion: Rev. E; PackageReference: Q-8; PackageDescription: 8-Pin Ceramic Dual In-Line Package, Row spacing 7.62 mm, Pitch 2.54 mm; Supplier 1: Digi-Key; Supplier Part Number 1: OP200AZ-ND; Supplier 2: Newark; Supplier Part Number 2: 05F8550; Packing: Tube; Slew Rate: 150mV/us; Mounting Technology: Through Hole; ComponentLink1Description: Manufacturer URL; ComponentLink1URL: http://www.analog.com/en/index.html; ComponentLink2Description: Datasheet; ComponentLink2URL: http://www.analog.com/static/imported-files/data_sheets/OP200.pdf; ComponentLink3Description: Package Specification; ComponentLink3URL: http://www.analog.com/static/imported-files/packages/3925655241313314758Q_8.pdf
footprint ADI-Q-8 (DIP, 8-Leads, Body 10.29x6.73mm, Pitch 2.54mm)
pins on every part: 4 -V (power), 8 +V (power)
part A pins: 1 OUT A (out), 2 -IN A (in), 3 +IN A (in)
part B pins: 5 +IN B (in), 6 -IN B (in), 7 OUT B (out)

## OP200EZ
designator U?
Double Channel Low Supply Current Operational Amplifier, 500 KHz BW, 150 mV/us SR, Industrial, 8-pin DIP (Q-8), Tube; Generic Part Number: OP200; Manufacturer: Analog Devices; PartNumber: OP200EZ; Amplifiers Per Package: 2; Input Bias Current: 100pA; Input Offset Voltage: 80uV; Iq/Amp: 775uA; Small Signal Bandwidth: 500KHz; V Span Max: 40V; V Span Min: 6V; DatasheetVersion: Rev. E; PackageReference: Q-8; PackageDescription: 8-Pin Ceramic Dual In-Line Package, Row spacing 7.62 mm, Pitch 2.54 mm; Supplier 1: Digi-Key; Supplier Part Number 1: OP200EZ-ND; Supplier 2: Farnell; Supplier Part Number 2: 2240816; Supplier 3: Newark; Supplier Part Number 3: 05F8551; Packing: Tube; Slew Rate: 150mV/us; Mounting Technology: Through Hole; ComponentLink1Description: Manufacturer URL; ComponentLink1URL: http://www.analog.com/en/index.html; ComponentLink2Description: Datasheet; ComponentLink2URL: http://www.analog.com/static/imported-files/data_sheets/OP200.pdf; ComponentLink3Description: Package Specification; ComponentLink3URL: http://www.analog.com/static/imported-files/packages/3925655241313314758Q_8.pdf
footprint ADI-Q-8 (DIP, 8-Leads, Body 10.29x6.73mm, Pitch 2.54mm)
pins on every part: 4 -V (power), 8 +V (power)
part A pins: 1 OUT A (out), 2 -IN A (in), 3 +IN A (in)
part B pins: 5 +IN B (in), 6 -IN B (in), 7 OUT B (out)

## OP200GPZ
designator U?
Double Channel Low Supply Current Operational Amplifier, 500 KHz BW, 150 mV/us SR, Industrial, 8-pin DIP (N-8), Tube; Generic Part Number: OP200; Manufacturer: Analog Devices; PartNumber: OP200GPZ; Amplifiers Per Package: 2; Input Bias Current: 100pA; Input Offset Voltage: 80uV; Iq/Amp: 775uA; Small Signal Bandwidth: 500KHz; V Span Max: 40V; V Span Min: 6V; DatasheetVersion: Rev. E; PackageVersion: 070606-A; PackageReference: N-8; PackageDescription: 8-Pin Plastic Dual In-Line Package, Row spacing 7.62 mm, Pitch 2.54 mm; Supplier 1: Digi-Key; Supplier Part Number 1: OP200GPZ-ND; Supplier 2: Farnell; Supplier Part Number 2: 1523893; Supplier 3: Farnell; Supplier Part Number 3: 9604715; Supplier 4: Newark; Supplier Part Number 4: 59K8797; Packing: Tube; Slew Rate: 150mV/us; Mounting Technology: Through Hole; Code_JEDEC: MS-001; ComponentLink1Description: Manufacturer URL; ComponentLink1URL: http://www.analog.com/en/index.html; ComponentLink2Description: Datasheet; ComponentLink2URL: http://www.analog.com/static/imported-files/data_sheets/OP200.pdf; ComponentLink3Description: Package Specification; ComponentLink3URL: http:/www.analog.com/static/imported-files/packages/PKG_PDF/PDIP(N)/N_8.pdf
footprint ADI-N-8 (DIP, 8-Leads, Body 9.59x6.6mm, Pitch 2.54mm)
pins on every part: 4 -V (power), 8 +V (power)
part A pins: 1 OUT A (out), 2 -IN A (in), 3 +IN A (in)
part B pins: 5 +IN B (in), 6 -IN B (in), 7 OUT B (out)

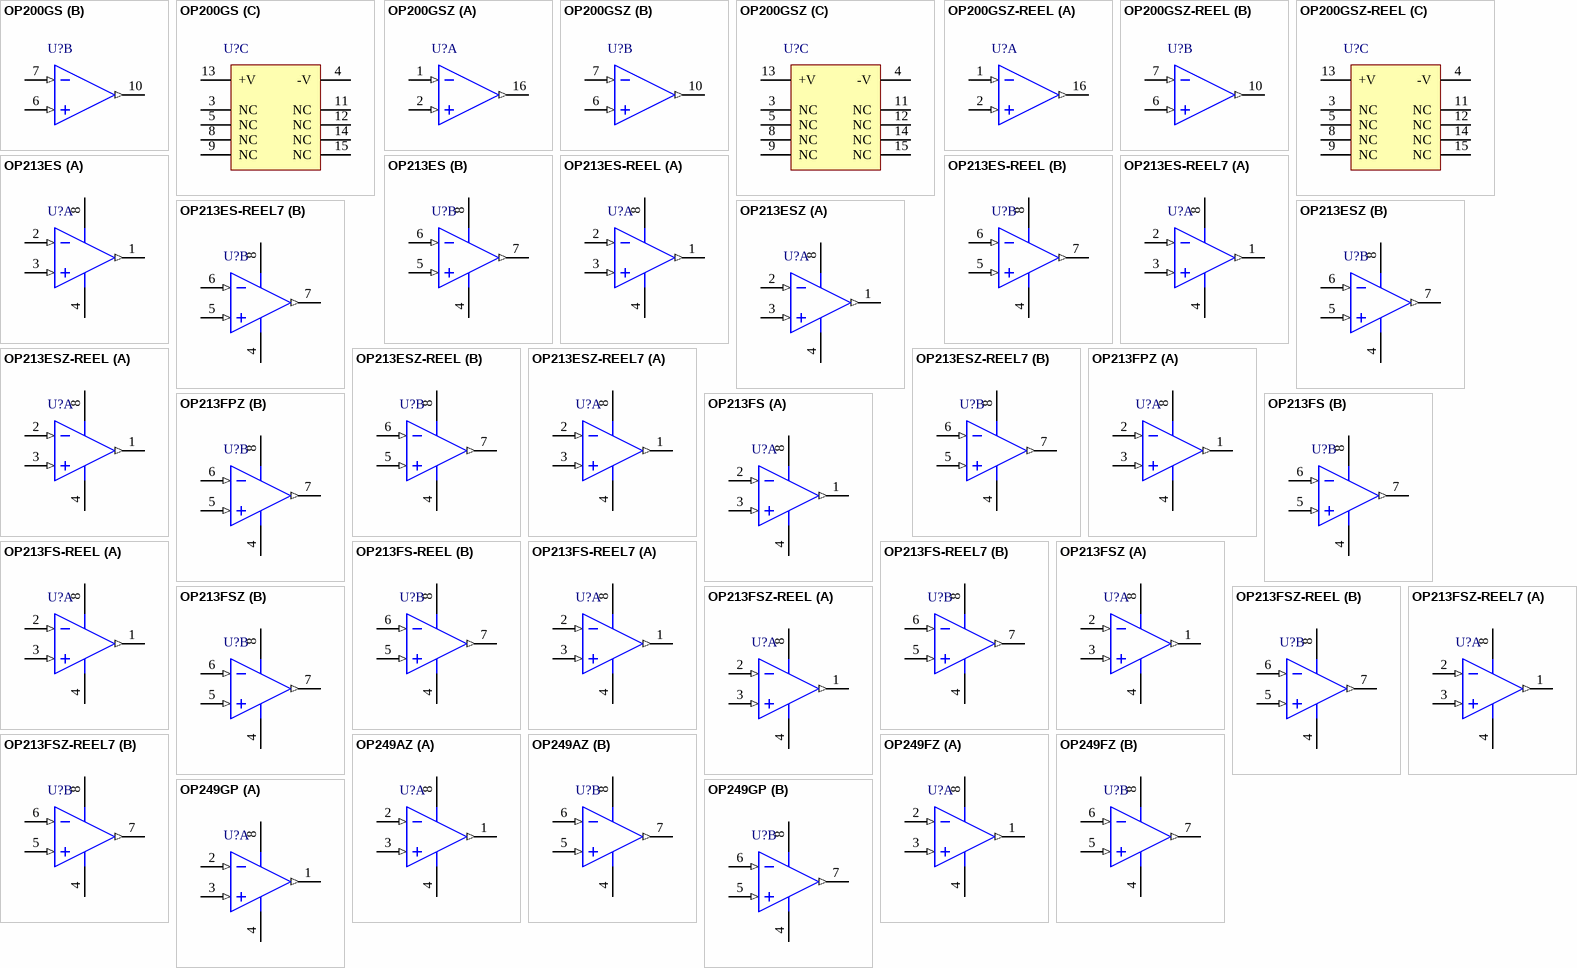
[diagram p93: symbols OP200GS to OP249GP]

## OP200GS
designator U?
Double Channel Low Supply Current Operational Amplifier, 500 KHz BW, 150 mV/us SR, Industrial, 16-pin SOIC (RW-16), Tube; Generic Part Number: OP200; Manufacturer: Analog Devices; PartNumber: OP200GS; Amplifiers Per Package: 2; Input Bias Current: 100pA; Input Offset Voltage: 80uV; Iq/Amp: 775uA; Small Signal Bandwidth: 500KHz; V Span Max: 40V; V Span Min: 6V; DatasheetVersion: Rev. E; PackageVersion: 032707-B; PackageReference: RW-16; PackageDescription: 16-Pin Standard Small Outline Package, Body 10.3 x 7.5 mm, Pitch 1.27 mm; Supplier 1: Digi-Key; Supplier Part Number 1: OP200GS-ND; Packing: Tube; Slew Rate: 150mV/us; Mounting Technology: Surface Mount; Code_JEDEC: MS-013-AA; ComponentLink1Description: Manufacturer URL; ComponentLink1URL: http://www.analog.com/en/index.html; ComponentLink2Description: Datasheet; ComponentLink2URL: http://www.analog.com/static/imported-files/data_sheets/OP200.pdf; ComponentLink3Description: Package Specification; ComponentLink3URL: http://www.analog.com/static/imported-files/packages/PKG_PDF/SOIC_WIDE%20%28RW%29/RW_16.pdf
footprint ADI-RW-16_N (SOIC, 16-Leads, Body 10.3x7.5mm, Pitch 1.27mm,IPC Medium Density)
footprint ADI-RW-16_L (SOIC, 16-Leads, Body 10.3x7.5mm, Pitch 1.27mm, IPC High Density)
footprint ADI-RW-16_M (SOIC, 16-Leads, Body 10.3x7.5mm, Pitch 1.27mm, IPC Low Density)
part A pins: 1 -IN A (in), 2 +IN A (in), 16 OUT A (out)
part B pins: 6 +IN B (in), 7 -IN B (in), 10 OUT B (out)
part C pins: 3 NC, 4 -V (power), 5 NC, 8 NC, 9 NC, 11 NC, 12 NC, 13 +V (power), 14 NC, 15 NC

## OP200GSZ
designator U?
Double Channel Low Supply Current Operational Amplifier, 500 KHz BW, 150 mV/us SR, Industrial, 16-pin SOIC (RW-16), Tube; Generic Part Number: OP200; Manufacturer: Analog Devices; PartNumber: OP200GSZ; Amplifiers Per Package: 2; Input Bias Current: 100pA; Input Offset Voltage: 80uV; Iq/Amp: 775uA; Small Signal Bandwidth: 500KHz; V Span Max: 40V; V Span Min: 6V; DatasheetVersion: Rev. E; PackageVersion: 032707-B; PackageReference: RW-16; PackageDescription: 16-Pin Standard Small Outline Package, Body 10.3 x 7.5 mm, Pitch 1.27 mm; Supplier 1: Digi-Key; Supplier Part Number 1: OP200GSZ-ND; Supplier 2: Farnell; Supplier Part Number 2: 1378917; Supplier 3: Newark; Supplier Part Number 3: 59K8798; Packing: Tube; Slew Rate: 150mV/us; Mounting Technology: Surface Mount; Code_JEDEC: MS-013-AA; ComponentLink1Description: Manufacturer URL; ComponentLink1URL: http://www.analog.com/en/index.html; ComponentLink2Description: Datasheet; ComponentLink2URL: http://www.analog.com/static/imported-files/data_sheets/OP200.pdf; ComponentLink3Description: Package Specification; ComponentLink3URL: http://www.analog.com/static/imported-files/packages/PKG_PDF/SOIC_WIDE%20%28RW%29/RW_16.pdf
footprint ADI-RW-16_N (SOIC, 16-Leads, Body 10.3x7.5mm, Pitch 1.27mm,IPC Medium Density)
footprint ADI-RW-16_L (SOIC, 16-Leads, Body 10.3x7.5mm, Pitch 1.27mm, IPC High Density)
footprint ADI-RW-16_M (SOIC, 16-Leads, Body 10.3x7.5mm, Pitch 1.27mm, IPC Low Density)
part A pins: 1 -IN A (in), 2 +IN A (in), 16 OUT A (out)
part B pins: 6 +IN B (in), 7 -IN B (in), 10 OUT B (out)
part C pins: 3 NC, 4 -V (power), 5 NC, 8 NC, 9 NC, 11 NC, 12 NC, 13 +V (power), 14 NC, 15 NC

## OP200GSZ-REEL
designator U?
Double Channel Low Supply Current Operational Amplifier, 500 KHz BW, 150 mV/us SR, Industrial, 16-pin SOIC (RW-16), Reel; Generic Part Number: OP200; Manufacturer: Analog Devices; PartNumber: OP200GSZ-REEL; Amplifiers Per Package: 2; Input Bias Current: 100pA; Input Offset Voltage: 80uV; Iq/Amp: 775uA; Small Signal Bandwidth: 500KHz; V Span Max: 40V; V Span Min: 6V; DatasheetVersion: Rev. E; PackageVersion: 032707-B; PackageReference: RW-16; PackageDescription: 16-Pin Standard Small Outline Package, Body 10.3 x 7.5 mm, Pitch 1.27 mm; Supplier 1: Digi-Key; Supplier Part Number 1: OP200GSZ-REELTR-ND; Supplier 2: Digi-Key; Supplier Part Number 2: OP200GSZ-REELCT-ND; Supplier 3: Digi-Key; Supplier Part Number 3: OP200GSZ-REELDKR-ND; Supplier 4: Newark; Supplier Part Number 4: 59K8799; Packing: Reel; Slew Rate: 150mV/us; Mounting Technology: Surface Mount; Code_JEDEC: MS-013-AA; ComponentLink1Description: Manufacturer URL; ComponentLink1URL: http://www.analog.com/en/index.html; ComponentLink2Description: Datasheet; ComponentLink2URL: http://www.analog.com/static/imported-files/data_sheets/OP200.pdf; ComponentLink3Description: Package Specification; ComponentLink3URL: http://www.analog.com/static/imported-files/packages/PKG_PDF/SOIC_WIDE%20%28RW%29/RW_16.pdf
footprint ADI-RW-16_N (SOIC, 16-Leads, Body 10.3x7.5mm, Pitch 1.27mm,IPC Medium Density)
footprint ADI-RW-16_L (SOIC, 16-Leads, Body 10.3x7.5mm, Pitch 1.27mm, IPC High Density)
footprint ADI-RW-16_M (SOIC, 16-Leads, Body 10.3x7.5mm, Pitch 1.27mm, IPC Low Density)
part A pins: 1 -IN A (in), 2 +IN A (in), 16 OUT A (out)
part B pins: 6 +IN B (in), 7 -IN B (in), 10 OUT B (out)
part C pins: 3 NC, 4 -V (power), 5 NC, 8 NC, 9 NC, 11 NC, 12 NC, 13 +V (power), 14 NC, 15 NC

## OP213ES
designator U?
Double Channel Single-Supply Operation Operational Amplifier, 3.4 MHz BW, 1.2 V/us SR, Industrial, 8-pin SOIC (R-8), Tube; Generic Part Number: OP213; Manufacturer: Analog Devices; PartNumber: OP213ES; Amplifiers Per Package: 2; Input Bias Current: 600nA; Input Offset Voltage: 250uV; Iq/Amp: 3mA; Small Signal Bandwidth: 3.4MHz; V Span Max: 36V; V Span Min: 4V; DatasheetVersion: Rev. F; PackageVersion: 060506-A; PackageReference: R-8; PackageDescription: 8-Pin Standard Small Outline Package, Body 3.9 x 4.9 mm, Pitch 1.27 mm; Supplier 1: Digi-Key; Supplier Part Number 1: OP213ES-ND; Slew Rate: 1.2V/us; Mounting Technology: Surface Mount; Code_JEDEC: MS-012-AA; ComponentLink1Description: Manufacturer URL; ComponentLink1URL: http://www.analog.com/en/index.html; ComponentLink2Description: Datasheet; ComponentLink2URL: http://www.analog.com/static/imported-files/data_sheets/OP113_213_413.pdf; ComponentLink3Description: Package Specification; ComponentLink3URL: http://www.analog.com/static/imported-files/packages/PKG_PDF/SOIC_Narrow%20(R)/R_8.pdf
footprint ADI-R-8_N (SOIC, 8-Leads, Body 4.9x3.9mm, Pitch 1.27mm, IPC Medium Density)
footprint ADI-R-8_L (SOIC, 8-Leads, Body 4.9x3.9mm, Pitch 1.27mm, IPC High Density)
footprint ADI-R-8_M (SOIC, 8-Leads, Body 4.9x3.9mm, Pitch 1.27mm, IPC Low Density)
pins on every part: 4 -V (power), 8 +V (power)
part A pins: 1 OUT A (out), 2 -IN A (in), 3 +IN A (in)
part B pins: 5 +IN B (in), 6 -IN B (in), 7 OUT B (out)

## OP213ES-REEL
designator U?
Double Channel Single-Supply Operation Operational Amplifier, 3.4 MHz BW, 1.2 V/us SR, Industrial, 8-pin SOIC (R-8), Reel; Generic Part Number: OP213; Manufacturer: Analog Devices; PartNumber: OP213ES-REEL; Amplifiers Per Package: 2; Input Bias Current: 600nA; Input Offset Voltage: 250uV; Iq/Amp: 3mA; Small Signal Bandwidth: 3.4MHz; V Span Max: 36V; V Span Min: 4V; DatasheetVersion: Rev. F; PackageVersion: 060506-A; PackageReference: R-8; PackageDescription: 8-Pin Standard Small Outline Package, Body 3.9 x 4.9 mm, Pitch 1.27 mm; Supplier 1: Digi-Key; Supplier Part Number 1: OP213ES-REEL-ND; Supplier 2: Newark; Supplier Part Number 2: 09B8347; Slew Rate: 1.2V/us; Mounting Technology: Surface Mount; Code_JEDEC: MS-012-AA; ComponentLink1Description: Manufacturer URL; ComponentLink1URL: http://www.analog.com/en/index.html; ComponentLink2Description: Datasheet; ComponentLink2URL: http://www.analog.com/static/imported-files/data_sheets/OP113_213_413.pdf; ComponentLink3Description: Package Specification; ComponentLink3URL: http://www.analog.com/static/imported-files/packages/PKG_PDF/SOIC_Narrow%20(R)/R_8.pdf
footprint ADI-R-8_N (SOIC, 8-Leads, Body 4.9x3.9mm, Pitch 1.27mm, IPC Medium Density)
footprint ADI-R-8_L (SOIC, 8-Leads, Body 4.9x3.9mm, Pitch 1.27mm, IPC High Density)
footprint ADI-R-8_M (SOIC, 8-Leads, Body 4.9x3.9mm, Pitch 1.27mm, IPC Low Density)
pins on every part: 4 -V (power), 8 +V (power)
part A pins: 1 OUT A (out), 2 -IN A (in), 3 +IN A (in)
part B pins: 5 +IN B (in), 6 -IN B (in), 7 OUT B (out)